# EAGLE library part EE02_SHIELD_HEADER (library EE)
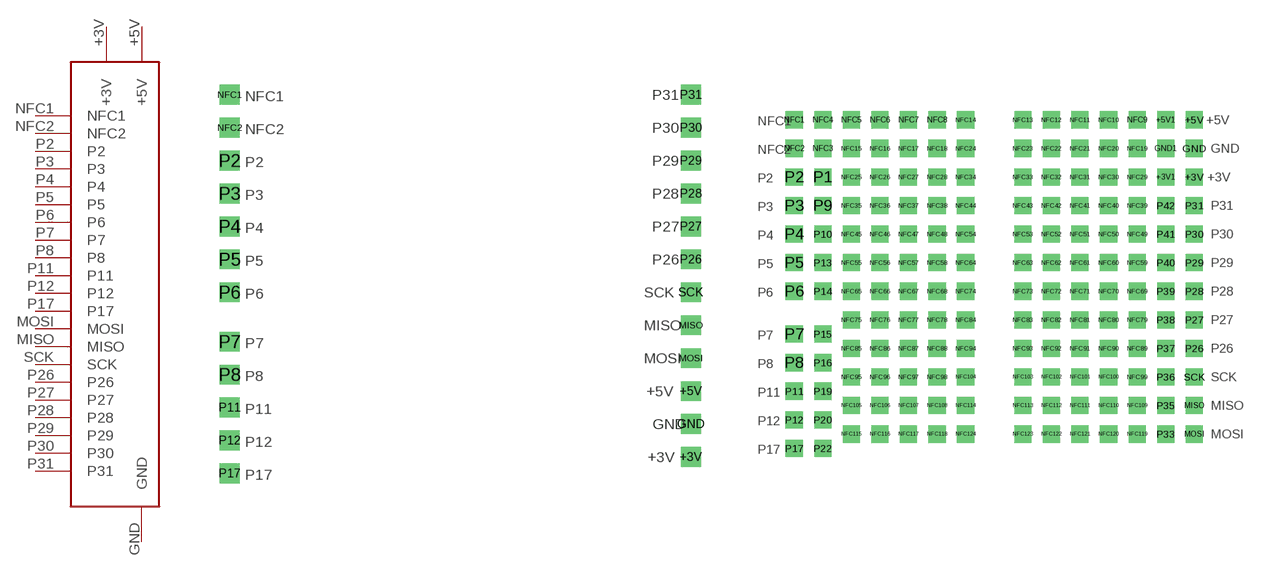
[diagram p6: symbol with the pads of EE02_SHIELD_HEADER; footprints EE02_SHIELD_HEADER, EE02_PROTO_HEADER]

Designator prefix -

## EE02_SHIELD_HEADERSHIELD  [EE02_SHIELD_HEADER]
+3V  +3V
+5V  +5V
GND  GND
MISO  MISO
MOSI  MOSI
NFC1  NFC1
NFC2  NFC2
P2  P2
P3  P3
P4  P4
P5  P5
P6  P6
P7  P7
P8  P8
P11  P11
P12  P12
P17  P17
P26  P26
P27  P27
P28  P28
P29  P29
P30  P30
P31  P31
SCK  SCK

## EE02_SHIELD_HEADERPROTO  [EE02_PROTO_HEADER]
+3V  +3V
+5V  +5V
GND  GND
MISO  MISO
MOSI  MOSI
NFC1  NFC1
NFC2  NFC2
P2  P2
P3  P3
P4  P4
P5  P5
P6  P6
P7  P7
P8  P8
P9  P11
P12  P12
P17  P17
P26  P26
P27  P27
P28  P28
P29  P29
P30  P30
P31  P31
SCK  SCK

## Footprint EE02_SHIELD_HEADER (pad centres in mm)
PIN HEADER
drill 1.016 square: +3V 35.56,2.54; +5V 35.56,7.62; GND 35.56,5.08; MISO 35.56,12.7; MOSI 35.56,10.16; NFC1 0,30.48; NFC2 0,27.94; P2 0,25.4; P3 0,22.86; P4 0,20.32; P5 0,17.78; P6 0,15.24; P7 0,11.43; P8 0,8.89; P11 0,6.35; P12 0,3.81; P17 0,1.27; P26 35.56,17.78; P27 35.56,20.32; P28 35.56,22.86; P29 35.56,25.4; P30 35.56,27.94; P31 35.56,30.48; SCK 35.56,15.24

## Footprint EE02_PROTO_HEADER (pad centres in mm)
PIN HEADER
drill 1.016 square: +3V 35.56,25.4; +3V1 33.02,25.4; +5V 35.56,30.48; +5V1 33.02,30.48; GND 35.56,27.94; GND1 33.02,27.94; MISO 35.56,5.08; MOSI 35.56,2.54; NFC1 0,30.48; NFC2 0,27.94; NFC3 2.54,27.94; NFC4 2.54,30.48; NFC5 5.08,30.48; NFC6 7.62,30.48; NFC7 10.16,30.48; NFC8 12.7,30.48; NFC9 30.48,30.48; NFC10 27.94,30.48; NFC11 25.4,30.48; NFC12 22.86,30.48; NFC13 20.32,30.48; NFC14 15.24,30.48; NFC15 5.08,27.94; NFC16 7.62,27.94; NFC17 10.16,27.94; NFC18 12.7,27.94; NFC19 30.48,27.94; NFC20 27.94,27.94; NFC21 25.4,27.94; NFC22 22.86,27.94; NFC23 20.32,27.94; NFC24 15.24,27.94; NFC25 5.08,25.4; NFC26 7.62,25.4; NFC27 10.16,25.4; NFC28 12.7,25.4; NFC29 30.48,25.4; NFC30 27.94,25.4; NFC31 25.4,25.4; NFC32 22.86,25.4; NFC33 20.32,25.4; NFC34 15.24,25.4; NFC35 5.08,22.86; NFC36 7.62,22.86; NFC37 10.16,22.86; NFC38 12.7,22.86; NFC39 30.48,22.86; NFC40 27.94,22.86; NFC41 25.4,22.86; NFC42 22.86,22.86; NFC43 20.32,22.86; NFC44 15.24,22.86; NFC45 5.08,20.32; NFC46 7.62,20.32; NFC47 10.16,20.32; NFC48 12.7,20.32; NFC49 30.48,20.32; NFC50 27.94,20.32; NFC51 25.4,20.32; NFC52 22.86,20.32; NFC53 20.32,20.32; NFC54 15.24,20.32; NFC55 5.08,17.78; NFC56 7.62,17.78; NFC57 10.16,17.78; NFC58 12.7,17.78; NFC59 30.48,17.78; NFC60 27.94,17.78; NFC61 25.4,17.78; NFC62 22.86,17.78; NFC63 20.32,17.78; NFC64 15.24,17.78; NFC65 5.08,15.24; NFC66 7.62,15.24; NFC67 10.16,15.24; NFC68 12.7,15.24; NFC69 30.48,15.24; NFC70 27.94,15.24; NFC71 25.4,15.24; NFC72 22.86,15.24; NFC73 20.32,15.24; NFC74 15.24,15.24; NFC75 5.08,12.7; NFC76 7.62,12.7; NFC77 10.16,12.7; NFC78 12.7,12.7; NFC79 30.48,12.7; NFC80 27.94,12.7; NFC81 25.4,12.7; NFC82 22.86,12.7; NFC83 20.32,12.7; NFC84 15.24,12.7; NFC85 5.08,10.16; NFC86 7.62,10.16; NFC87 10.16,10.16; NFC88 12.7,10.16; NFC89 30.48,10.16; NFC90 27.94,10.16; NFC91 25.4,10.16; NFC92 22.86,10.16; NFC93 20.32,10.16; NFC94 15.24,10.16; NFC95 5.08,7.62; NFC96 7.62,7.62; NFC97 10.16,7.62; NFC98 12.7,7.62; NFC99 30.48,7.62; NFC100 27.94,7.62; NFC101 25.4,7.62; NFC102 22.86,7.62; NFC103 20.32,7.62; NFC104 15.24,7.62; NFC105 5.08,5.08; NFC106 7.62,5.08; NFC107 10.16,5.08; NFC108 12.7,5.08; NFC109 30.48,5.08; NFC110 27.94,5.08; NFC111 25.4,5.08; NFC112 22.86,5.08; NFC113 20.32,5.08; NFC114 15.24,5.08; NFC115 5.08,2.54; NFC116 7.62,2.54; NFC117 10.16,2.54; NFC118 12.7,2.54; NFC119 30.48,2.54; NFC120 27.94,2.54; NFC121 25.4,2.54; NFC122 22.86,2.54; NFC123 20.32,2.54; NFC124 15.24,2.54; P1 2.54,25.4; P2 0,25.4; P3 0,22.86; P4 0,20.32; P5 0,17.78; P6 0,15.24; P7 0,11.43; P8 0,8.89; P9 2.54,22.86; P10 2.54,20.32; P11 0,6.35; P12 0,3.81; P13 2.54,17.78; P14 2.54,15.24; P15 2.54,11.43; P16 2.54,8.89; P17 0,1.27; P19 2.54,6.35; P20 2.54,3.81; P22 2.54,1.27; P26 35.56,10.16; P27 35.56,12.7; P28 35.56,15.24; P29 35.56,17.78; P30 35.56,20.32; P31 35.56,22.86; P33 33.02,2.54; P35 33.02,5.08; P36 33.02,7.62; P37 33.02,10.16; P38 33.02,12.7; P39 33.02,15.24; P40 33.02,17.78; P41 33.02,20.32; P42 33.02,22.86; SCK 35.56,7.62